# Altium footprint library S4B-EH.PcbLib: 1 footprints
Each footprint in its own frame and in the unit in brackets; x right, y up, seen from the top. Pads: shape width x height; smd on the part's side, far side on the other; paste and mask are expansions set on the pad; w line width, h text height; cw(c..) or ccw(c..) is an arc to the next point about the centre after c.
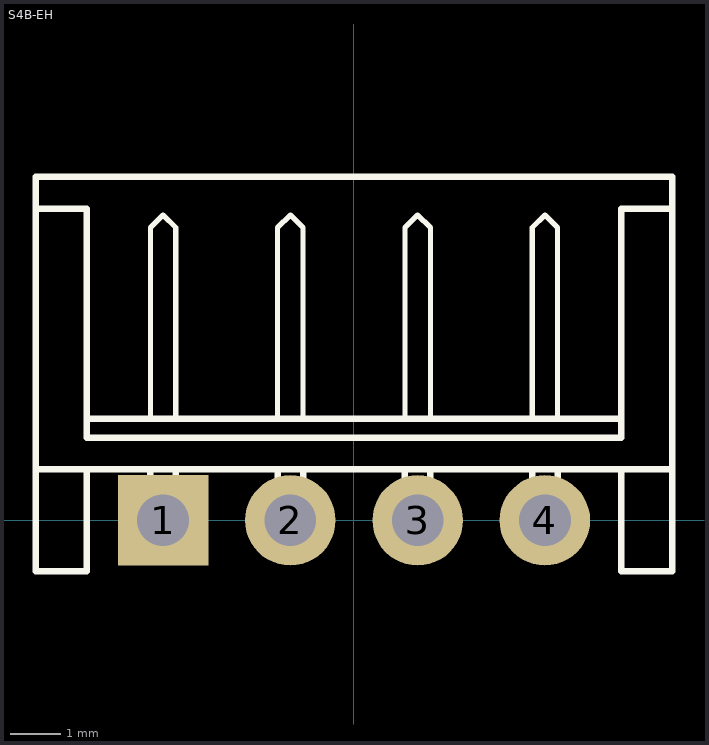
[diagram p0: the footprint, top view; thin cyan lines are the x and y axes]

## S4B-EH [mil] "EH Connector 2.5mm pitch, side entry"
height 165.35
pads (4):
  rect 70x70 hole 40: 1(-147.64,0)
  round 70 hole 40: 2(-49.21,0) 3(49.21,0) 4(147.64,0)
TopOverlay:
  lines w4: -157.48,78.74 -157.48,226.38 -147.64,236.22 -137.8,226.38 -137.8,78.74 ; -59.05,78.74 -59.05,226.38 -49.21,236.22 -39.37,226.38 -39.37,78.74 ; 39.37,78.74 39.37,226.38 49.21,236.22 59.06,226.38 59.06,78.74 ; 137.8,78.74 137.8,226.38 147.64,236.22 157.48,226.38 157.48,78.74
  lines w5: -246.06,241.14 -206.69,241.14 -206.69,63.98 206.69,63.98 206.69,241.14 246.06,241.14 ; -206.69,78.74 206.69,78.74 ; -157.48,39.37 -157.48,-19.68 -137.8,-19.68 -137.8,39.37 ; -59.05,39.37 -59.05,-19.68 -39.37,-19.68 -39.37,39.37 ; 39.37,39.37 39.37,-19.68 59.06,-19.68 59.06,39.37 ; 137.8,39.37 137.8,-19.68 157.48,-19.68 157.48,39.37 ; -246.06,39.37 -246.06,265.75 246.06,265.75 246.06,39.37 ; -246.06,39.37 -246.06,-39.37 -206.69,-39.37 -206.69,39.37 ; -246.06,39.37 -206.69,39.37 ; -206.69,39.37 206.69,39.37 ; 206.69,39.37 206.69,-39.37 246.06,-39.37 246.06,39.37 ; 206.69,39.37 246.06,39.37
3D body: height 165.35, standoff 0, extent -246.04,-39.35 -206.71,39.35
3D body: height 165.35, standoff 0, extent 206.71,-39.35 246.04,39.35
3D body: height 39.37, standoff 0, extent -246.04,78.76 246.04,265.73
3D body: height 165.35, standoff 0, extent -246.04,39.39 246.04,241.12